# Altium schematic symbol library MIC29302.SchLib: 1 symbol
Pins are listed as number, name and electrical type; pins without a type are passive.

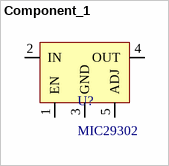
[diagram p0: symbol Component_1]

## Component_1
designator U?, comment MIC29302
footprint DPAK165P1524X238-5N (D2-PAK, 5-Pads, Body 8.43x8.39mm (max), IPC Medium Density)
pins: 1 EN, 2 IN, 3 GND, 4 OUT, 5 ADJ